# EAGLE library part DW01A (library DW01A)
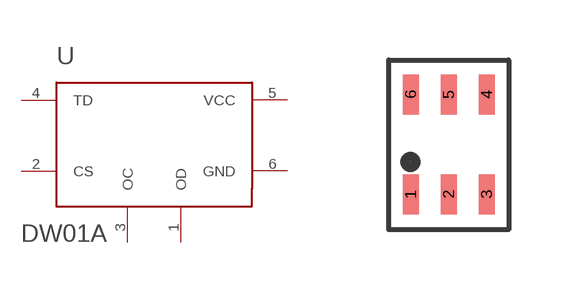
[diagram p0: symbol with the pads of SOT-23-6; footprint SOT-23-6]

Designator prefix -

## DW01A  [SOT-23-6]
1  OD
2  CS
3  OC
4  TD
5  VCC
6  GND

## Footprint SOT-23-6 (pad centres in mm)
smd 0.4 x 1: 1 -0.95,-1.212; 2 0,-1.212; 3 0.95,-1.212; 4 0.95,1.288; 5 0,1.288; 6 -0.95,1.288